# EAGLE library part LP38690SD-3.3 (library LP38690SD-3.3)
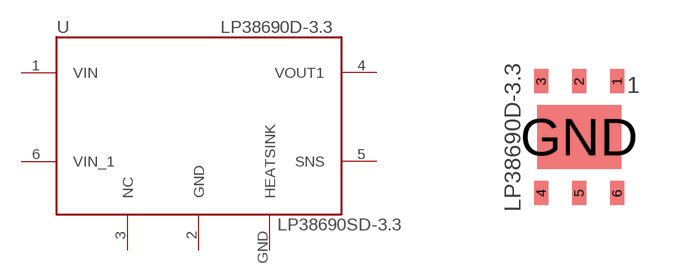
[diagram p0: symbol with the pads of LP38690SD-3.3; footprint LP38690SD-3.3]

Designator prefix -

## LP38690SD-3.3  [LP38690SD-3.3]
1  VIN  in
2  GND  pwr
3  NC  nc
4  VOUT1  out
5  SNS  out
6  VIN_1  in
GND  HEATSINK  pwr

## Footprint LP38690SD-3.3 (pad centres in mm)
smd 0.35 x 0.6: 1 0.95,1.4; 2 0,1.4; 3 -0.95,1.4; 4 -0.95,-1.4; 5 0,-1.4; 6 0.95,-1.4
smd 2.1 x 1.6: GND 0,0